# Altium schematic symbol library 10A6.SchLib: 1 symbol
Pins are listed as number, name and electrical type; pins without a type are passive.

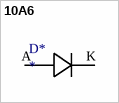
[diagram p0: symbol 10A6]

## 10A6
designator D*
footprint 10A6
pins: A, K